# EAGLE library part NEO-6 (library upra_lib4eagle)
uBlox NEO 6M GPS Module Max. Altitude: 50000m (in Airborne mode)
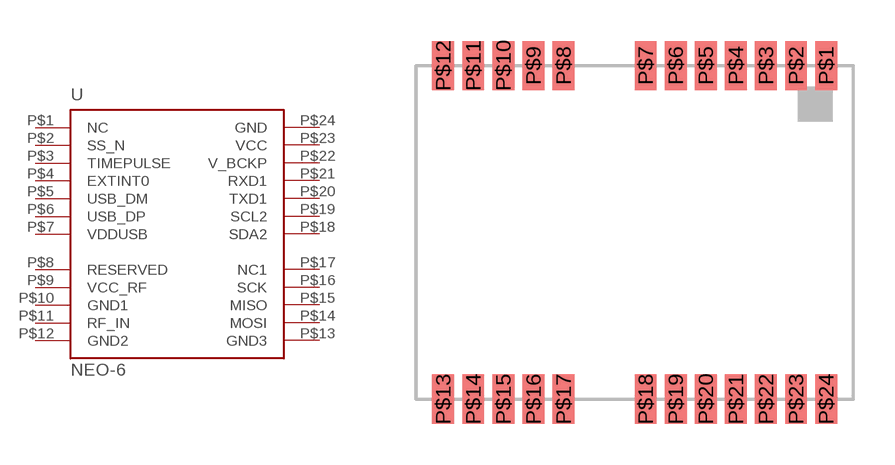
[diagram p2: symbol with the pads of NEO-6; footprint NEO-6]

Designator prefix -

## NEO-6-STANDALONE  [NEO-6]
P$1  NC
P$2  SS_N
P$3  TIMEPULSE
P$4  EXTINT0
P$5  USB_DM
P$6  USB_DP
P$7  VDDUSB
P$8  RESERVED
P$9  VCC_RF
P$10  GND1
P$11  RF_IN
P$12  GND2
P$13  GND3
P$14  MOSI
P$15  MISO
P$16  SCK
P$17  NC1
P$18  SDA2
P$19  SCL2
P$20  TXD1
P$21  RXD1
P$22  V_BCKP
P$23  VCC
P$24  GND

## Footprint NEO-6 (pad centres in mm)
smd 0.8 x 1.8: P$1 7.38,7.12; P$2 6.28,7.12; P$3 5.18,7.12; P$4 4.08,7.12; P$5 2.98,7.12; P$6 1.88,7.12; P$7 0.78,7.12; P$8 -2.22,7.12; P$9 -3.32,7.12; P$10 -4.42,7.12; P$11 -5.52,7.12; P$12 -6.62,7.12; P$13 -6.62,-5.08; P$14 -5.52,-5.08; P$15 -4.42,-5.08; P$16 -3.32,-5.08; P$17 -2.22,-5.08; P$18 0.78,-5.08; P$19 1.88,-5.08; P$20 2.98,-5.08; P$21 4.08,-5.08; P$22 5.18,-5.08; P$23 6.28,-5.08; P$24 7.38,-5.08